# Altium footprint library SOD-123.PcbLib: 1 footprints
Each footprint in its own frame and in the unit in brackets; x right, y up, seen from the top. Pads: shape width x height; smd on the part's side, far side on the other; paste and mask are expansions set on the pad; w line width, h text height; cw(c..) or ccw(c..) is an arc to the next point about the centre after c.
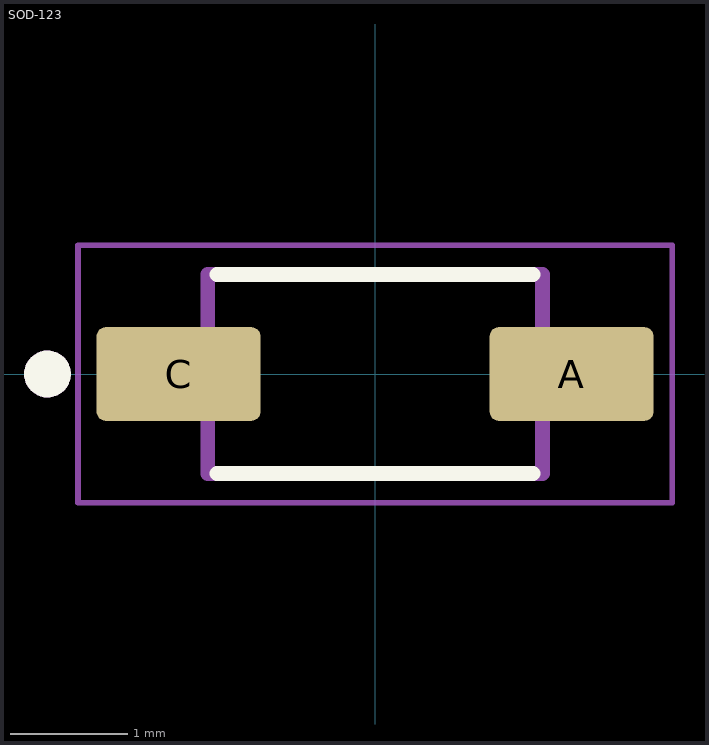
[diagram p0: the footprint, top view; thin cyan lines are the x and y axes]

## SOD-123 [mm]
pads (2):
  rrect18% 1.4x0.8 smd: A(1.68,0) C(-1.68,0)
Top Overlay:
  circle w0.2: c-2.8,0 r0.1
  lines w0.127: -1.35,-0.85 1.35,-0.85 ; -1.35,0.85 1.35,0.85
Mechanical 13:
  circle w0.2: c-2.8,0 r0.1
  lines w0.127: -1.43,-0.85 -1.43,0.85 1.43,0.85 1.43,-0.85 -1.43,-0.85
Mechanical 15:
  lines w0.05: -2.54,-1.1 -2.54,1.1 2.54,1.1 2.54,-1.1 -2.54,-1.1
3D body "1N4148W-13-F.STEP": height 1.44, standoff -0.01, extent -1.825,-0.648 1.825,0.902